# EAGLE library part 78L*-SO (library ic)
78Lxx: Fixed positive voltage regulator in SO-08 SMD package Voltage can be selected with change technology
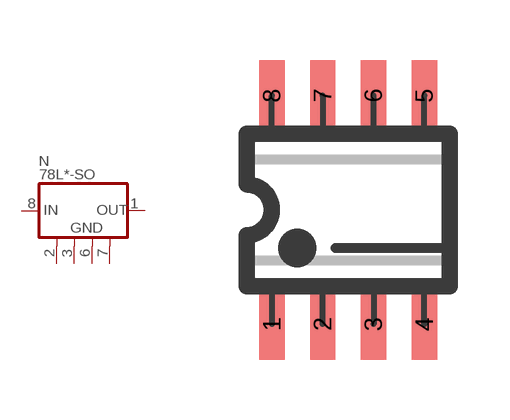
[diagram p134: symbol with the pads of SO08; footprint SO08]

Designator prefix N

## 78L05-SO, 78L06-SO, 78L08-SO, 78L09-SO, 78L12-SO, 78L15-SO, 78L18-SO, 78L24-SO  [SO08]
1  OUT  pwr
2  GND  pwr
3  GND  pwr
6  GND  pwr
7  GND  pwr
8  IN  pwr

## Footprint SO08 (pad centres in mm)
SO-8, SMD SOIC IC package, 8 pins
smd 0.635 x 1.778: 1 -1.905,-2.857; 2 -0.635,-2.857; 3 0.635,-2.857; 4 1.905,-2.857; 5 1.905,2.857; 6 0.635,2.857; 7 -0.635,2.857; 8 -1.905,2.857